# EAGLE library part 610024243021 (library Wurth_Elektronik2)
WR-PHD 2.54mm SMT Dual Socket Header Bottom Entry, 24 Pins=>Code : Con_BTB_SHD_2.54_2_610024243021 <http://katalog.we-online.de/media/images/eican/Con_BTB_SHD_2.54_2_6100xx243021_pf2.jpg> Details see: http://katalog.we-online.de/en/em/610_0xx_243_021 Created 2014-05-30, Karrer Zheng 2014 (C) Würth Elektronik
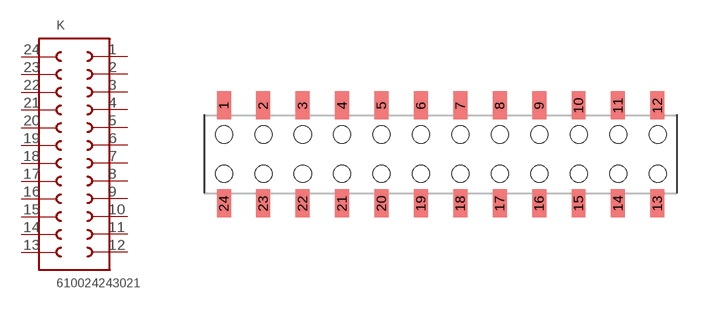
[diagram p191: symbol with the pads of 610024243021; footprint 610024243021]

Designator prefix K

## 610024243021  [610024243021]
1  1  pas
2  2  pas
3  3  pas
4  4  pas
5  5  pas
6  6  pas
7  7  pas
8  8  pas
9  9  pas
10  10  pas
11  11  pas
12  12  pas
13  13  pas
14  14  pas
15  15  pas
16  16  pas
17  17  pas
18  18  pas
19  19  pas
20  20  pas
21  21  pas
22  22  pas
23  23  pas
24  24  pas

## Footprint 610024243021 (pad centres in mm)
WR-PHD 2.54mm SMT Dual Socket Header Bottom Entry, 24 Pins
smd 0.9 x 1.8: 1 -17.78,3.15; 2 -15.25,3.14; 3 -12.71,3.14; 4 -10.17,3.14; 5 -7.63,3.14; 6 -5.09,3.14; 7 -2.55,3.14; 8 -0.01,3.14; 9 2.53,3.14; 10 5.07,3.14; 11 7.61,3.14; 12 10.15,3.14; 13 10.15,-3.16; 14 7.61,-3.16; 15 5.07,-3.16; 16 2.53,-3.16; 17 -0.01,-3.16; 18 -2.55,-3.16; 19 -5.09,-3.16; 20 -7.63,-3.16; 21 -10.17,-3.16; 22 -12.71,-3.16; 23 -15.25,-3.16; 24 -17.78,-3.17
hole 1.1 at -17.78,1.27
hole 1.1 at -15.24,1.27
hole 1.1 at -15.24,-1.27
hole 1.1 at -17.78,-1.27
hole 1.1 at -12.7,1.27
hole 1.1 at -12.7,-1.27
hole 1.1 at -10.16,1.27
hole 1.1 at -10.16,-1.27
hole 1.1 at -7.62,1.27
hole 1.1 at -7.62,-1.27
hole 1.1 at -5.08,1.27
hole 1.1 at -5.08,-1.27
hole 1.1 at -2.54,1.27
hole 1.1 at -2.54,-1.27
hole 1.1 at 0,1.27
hole 1.1 at 0,-1.27
hole 1.1 at 2.54,1.27
hole 1.1 at 2.54,-1.27
hole 1.1 at 5.08,1.27
hole 1.1 at 5.08,-1.27
hole 1.1 at 7.62,1.27
hole 1.1 at 7.62,-1.27
hole 1.1 at 10.16,1.27
hole 1.1 at 10.16,-1.27